# Altium footprint library 5104.PcbLib: 1 footprints
Each footprint in its own frame and in the unit in brackets; x right, y up, seen from the top. Pads: shape width x height; smd on the part's side, far side on the other; paste and mask are expansions set on the pad; w line width, h text height; cw(c..) or ccw(c..) is an arc to the next point about the centre after c.
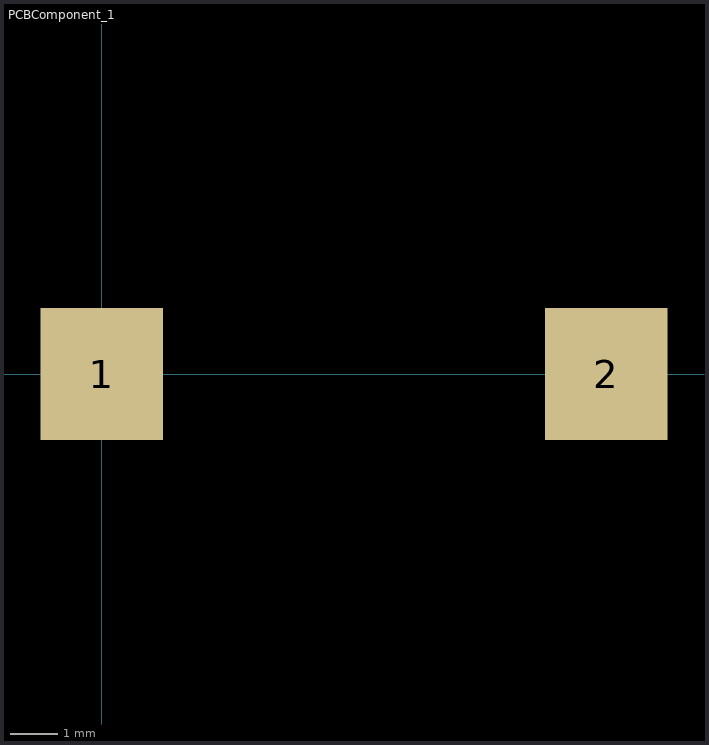
[diagram p0: the footprint, top view; thin cyan lines are the x and y axes]

## PCBComponent_1 [mm]
pads (2):
  rect 2.6x2.8 smd: 1(0,0) 2(10.7,0)
3D body "keystone-PN5104.STEP": height 1.8, standoff 0, extent -0.943,-1.15 11.357,1.15